# Altium footprint library Single-In-Line Package - 5+ Leads.PcbLib: 23 footprints (part 2 of 2)
Each footprint in its own frame and in the unit in brackets; x right, y up, seen from the top. Pads: shape width x height; smd on the part's side, far side on the other; paste and mask are expansions set on the pad; w line width, h text height; cw(c..) or ccw(c..) is an arc to the next point about the centre after c.
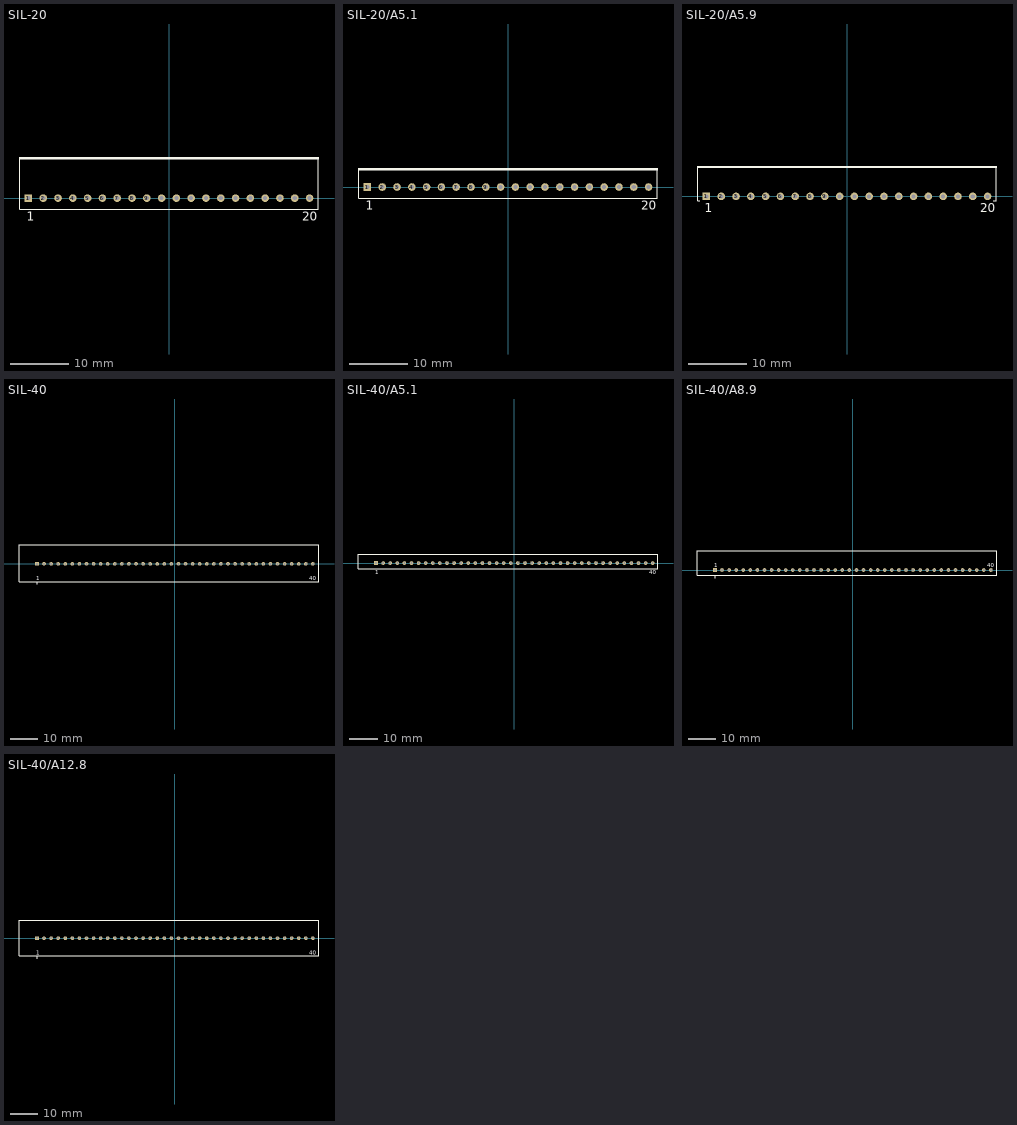
[diagram p1: the footprints below, top view; thin cyan lines are the x and y axes]

## SIL-20 [mm] "SIP; 20 Leads; Body 51 x 8.4 mm (LxW typ); Pitch 2.54 mm"
height 16.8
pads (20):
  rect 1.3x1.3 hole 0.7: 1(-24.13,0)
  round 1.3 hole 0.7: 2(-21.59,0) 3(-19.05,0) 4(-16.51,0) 5(-13.97,0) 6(-11.43,0) 7(-8.89,0) 8(-6.35,0) 9(-3.81,0) 10(-1.27,0) 11(1.27,0) 12(3.81,0) 13(6.35,0) 14(8.89,0) 15(11.43,0) 16(13.97,0) 17(16.51,0) 18(19.05,0) 19(21.59,0) 20(24.13,0)
Top Overlay:
  rectangle: -25.75,6.65 25.75,7.05
  lines w0.2: -25.65,6.95 -25.65,-1.95 25.65,-1.95 25.65,6.95
  text "20" at 22.88,-3.925 h1.5
  text "1" at -24.38,-3.925 h1.5

## SIL-20/A5.1 [mm] "SIP; 20 Leads; Body 51 x 4.6 mm (LxW typ); Pitch 2.54 mm"
height 16.8
pads (20):
  rect 1.3x1.3 hole 0.7: 1(-24.13,0)
  round 1.3 hole 0.7: 2(-21.59,0) 3(-19.05,0) 4(-16.51,0) 5(-13.97,0) 6(-11.43,0) 7(-8.89,0) 8(-6.35,0) 9(-3.81,0) 10(-1.27,0) 11(1.27,0) 12(3.81,0) 13(6.35,0) 14(8.89,0) 15(11.43,0) 16(13.97,0) 17(16.51,0) 18(19.05,0) 19(21.59,0) 20(24.13,0)
Top Overlay:
  rectangle: -25.75,2.85 25.75,3.25
  lines w0.2: -25.65,3.15 -25.65,-1.95 25.65,-1.95 25.65,3.15
  text "1" at -24.38,-3.925 h1.5
  text "20" at 22.88,-3.925 h1.5

## SIL-20/A5.9 [mm] "SIP; 20 Leads; Body 51 x 5.4 mm (LxW typ); Pitch 2.54 mm"
height 12.3
pads (20):
  rect 1.3x1.3 hole 0.7: 1(-24.13,0)
  round 1.3 hole 0.7: 2(-21.59,0) 3(-19.05,0) 4(-16.51,0) 5(-13.97,0) 6(-11.43,0) 7(-8.89,0) 8(-6.35,0) 9(-3.81,0) 10(-1.27,0) 11(1.27,0) 12(3.81,0) 13(6.35,0) 14(8.89,0) 15(11.43,0) 16(13.97,0) 17(16.51,0) 18(19.05,0) 19(21.59,0) 20(24.13,0)
Top Overlay:
  rectangle: -25.75,4.85 25.75,5.25
  lines w0.2: -25.65,5.15 -25.65,-0.75 -25.31,-0.75 ; 25.11,-0.75 25.65,-0.75 25.65,5.15
  text "1" at -24.38,-2.725 h1.5
  text "20" at 22.88,-2.725 h1.5

## SIL-40 [mm] "SIP; 40 Leads; Body 107 x 12.8 mm (LxW typ); Pitch 2.54 mm"
height 26
pads (40):
  rect 1.3x1.3 hole 0.7: 1(-49.53,0)
  round 1.3 hole 0.7: 2(-46.99,0) 3(-44.45,0) 4(-41.91,0) 5(-39.37,0) 6(-36.83,0) 7(-34.29,0) 8(-31.75,0) 9(-29.21,0) 10(-26.67,0) 11(-24.13,0) 12(-21.59,0) 13(-19.05,0) 14(-16.51,0) 15(-13.97,0) 16(-11.43,0) 17(-8.89,0) 18(-6.35,0) 19(-3.81,0) 20(-1.27,0) 21(1.27,0) 22(3.81,0) 23(6.35,0) 24(8.89,0) 25(11.43,0) 26(13.97,0) 27(16.51,0) 28(19.05,0) 29(21.59,0) 30(24.13,0) 31(26.67,0) 32(29.21,0) 33(31.75,0) 34(34.29,0) 35(36.83,0) 36(39.37,0) 37(41.91,0) 38(44.45,0) 39(46.99,0) 40(49.53,0)
Top Overlay:
  circle w0.25: c-49.53,-7 r0.125
  rectangle: -55.98,6.65 51.72,7.05
  lines w0.2: -55.88,6.95 -55.88,-6.35 51.62,-6.35 51.62,6.95
  text "1" at -49.78,-5.875 h1.5
  text "40" at 48.28,-5.875 h1.5

## SIL-40/A5.1 [mm] "SIP; 40 Leads; Body 107 x 4.6 mm (LxW typ); Pitch 2.54 mm"
height 22.7
pads (40):
  rect 1.3x1.3 hole 0.7: 1(-49.53,0)
  round 1.3 hole 0.7: 2(-46.99,0) 3(-44.45,0) 4(-41.91,0) 5(-39.37,0) 6(-36.83,0) 7(-34.29,0) 8(-31.75,0) 9(-29.21,0) 10(-26.67,0) 11(-24.13,0) 12(-21.59,0) 13(-19.05,0) 14(-16.51,0) 15(-13.97,0) 16(-11.43,0) 17(-8.89,0) 18(-6.35,0) 19(-3.81,0) 20(-1.27,0) 21(1.27,0) 22(3.81,0) 23(6.35,0) 24(8.89,0) 25(11.43,0) 26(13.97,0) 27(16.51,0) 28(19.05,0) 29(21.59,0) 30(24.13,0) 31(26.67,0) 32(29.21,0) 33(31.75,0) 34(34.29,0) 35(36.83,0) 36(39.37,0) 37(41.91,0) 38(44.45,0) 39(46.99,0) 40(49.53,0)
Top Overlay:
  rectangle: -55.98,2.85 51.42,3.25
  lines w0.2: -55.88,3.15 -55.88,-1.95 51.32,-1.95 51.32,3.15
  text "1" at -49.78,-3.925 h1.5
  text "40" at 48.28,-3.925 h1.5

## SIL-40/A8.9 [mm] "SIP; 40 Leads; Body 107 x 8.4 mm (LxW typ); Pitch 2.54 mm"
height 16.8
pads (40):
  rect 1.3x1.3 hole 0.7: 1(-49.53,0)
  round 1.3 hole 0.7: 2(-46.99,0) 3(-44.45,0) 4(-41.91,0) 5(-39.37,0) 6(-36.83,0) 7(-34.29,0) 8(-31.75,0) 9(-29.21,0) 10(-26.67,0) 11(-24.13,0) 12(-21.59,0) 13(-19.05,0) 14(-16.51,0) 15(-13.97,0) 16(-11.43,0) 17(-8.89,0) 18(-6.35,0) 19(-3.81,0) 20(-1.27,0) 21(1.27,0) 22(3.81,0) 23(6.35,0) 24(8.89,0) 25(11.43,0) 26(13.97,0) 27(16.51,0) 28(19.05,0) 29(21.59,0) 30(24.13,0) 31(26.67,0) 32(29.21,0) 33(31.75,0) 34(34.29,0) 35(36.83,0) 36(39.37,0) 37(41.91,0) 38(44.45,0) 39(46.99,0) 40(49.53,0)
Top Overlay:
  circle w0.25: c-49.53,-2.6 r0.125
  rectangle: -55.98,6.65 51.72,7.05
  lines w0.2: -55.88,6.95 -55.88,-1.95 51.62,-1.95 51.62,6.95
  text "40" at 48.28,1.025 h1.5
  text "1" at -49.78,1.025 h1.5

## SIL-40/A12.8 [mm] "SIP; 40 Leads; Body 107 x 12.3 mm (LxW typ); Pitch 2.54 mm"
height 22.5
pads (40):
  rect 1.3x1.3 hole 0.7: 1(-49.53,0)
  round 1.3 hole 0.7: 2(-46.99,0) 3(-44.45,0) 4(-41.91,0) 5(-39.37,0) 6(-36.83,0) 7(-34.29,0) 8(-31.75,0) 9(-29.21,0) 10(-26.67,0) 11(-24.13,0) 12(-21.59,0) 13(-19.05,0) 14(-16.51,0) 15(-13.97,0) 16(-11.43,0) 17(-8.89,0) 18(-6.35,0) 19(-3.81,0) 20(-1.27,0) 21(1.27,0) 22(3.81,0) 23(6.35,0) 24(8.89,0) 25(11.43,0) 26(13.97,0) 27(16.51,0) 28(19.05,0) 29(21.59,0) 30(24.13,0) 31(26.67,0) 32(29.21,0) 33(31.75,0) 34(34.29,0) 35(36.83,0) 36(39.37,0) 37(41.91,0) 38(44.45,0) 39(46.99,0) 40(49.53,0)
Top Overlay:
  circle w0.25: c-49.53,-7 r0.125
  rectangle: -55.98,6.15 51.72,6.55
  lines w0.2: -55.88,6.45 -55.88,-6.35 51.62,-6.35 51.62,6.45
  text "40" at 48.28,-5.875 h1.5
  text "1" at -49.78,-5.875 h1.5